# EAGLE library part GR8_MODULE_V0.1 (library CHIP_PRO_Dev-Kit-v0.1)
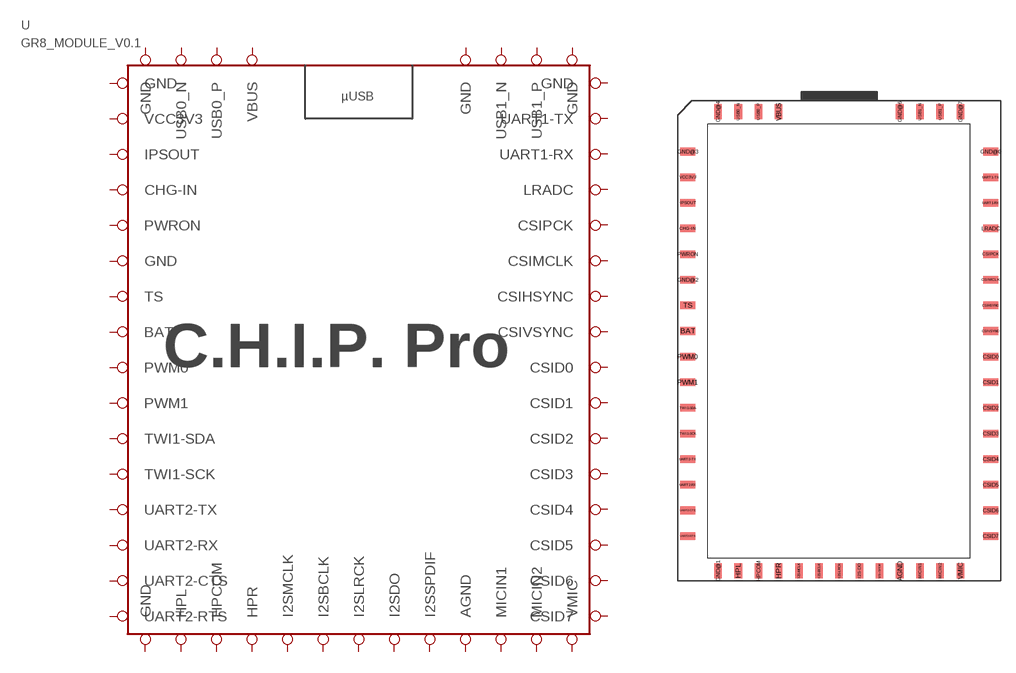
[diagram p0: symbol with the pads of GR8_MODULE_V0.2; footprint GR8_MODULE_V0.2]

Designator prefix -

## GR8_MODULE_V0.1  [GR8_MODULE_V0.2]
AGND  AGND  pwr
BAT  BAT
CHG-IN  CHG-IN  pwr
CSID0  CSID0
CSID1  CSID1
CSID2  CSID2
CSID3  CSID3
CSID4  CSID4
CSID5  CSID5
CSID6  CSID6
CSID7  CSID7
CSIHSYNC  CSIHSYNC
CSIMCLK  CSIMCLK
CSIPCK  CSIPCK
CSIVSYNC  CSIVSYNC
GND@0  GND  pwr
GND@1  GND  pwr
GND@2  GND  pwr
GND@3  GND  pwr
GND@4  GND  pwr
GND@6  GND  pwr
GND@7  GND  pwr
HPCOM  HPCOM
HPL  HPL
HPR  HPR
I2S+SPDIF  I2SSPDIF
I2S-BCLK  I2SBCLK
I2S-DO  I2SDO
I2S-LRCK  I2SLRCK
I2S-MCLK  I2SMCLK
IPSOUT  IPSOUT  pwr
LRADC  LRADC
MICIN1  MICIN1
MICIN2  MICIN2
PWM0  PWM0
PWM1  PWM1
PWRON  PWRON
TS  TS
TWI1-SCK  TWI1-SCK
TWI1-SDA  TWI1-SDA
UART1-RX  UART1-RX
UART1-TX  UART1-TX
UART2-CTS  UART2-CTS
UART2-RTS  UART2-RTS
UART2-RX  UART2-RX
UART2-TX  UART2-TX
USB0_N  USB0_N
USB0_P  USB0_P
USB1_N  USB1_N
USB1_P  USB1_P
VBUS  VBUS  pwr
VCC3V3  VCC3V3  pwr
VMIC  VMIC

## Footprint GR8_MODULE_V0.2 (pad centres in mm)
smd 0.75 x 1.5: AGND 6,-22.5; GND@1 -12,-22.5; GND@4 -12,23; GND@6 6,23; GND@7 12,23; HPCOM -8,-22.5; HPL -10,-22.5; HPR -6,-22.5; I2S+SPDIF 4,-22.5; I2S-BCLK -2,-22.5; I2S-DO 2,-22.5; I2S-LRCK 0,-22.5; I2S-MCLK -4,-22.5; MICIN1 8,-22.5; MICIN2 10,-22.5; USB0_N -10,23; USB0_P -8,23; USB1_N 8,23; USB1_P 10,23; VBUS -6,23; VMIC 12,-22.5
smd 1.5 x 0.75: BAT -15,1.27; CHG-IN -15,11.43; CSID0 15,-1.27; CSID1 15,-3.81; CSID2 15,-6.35; CSID3 15,-8.89; CSID4 15,-11.43; CSID5 15,-13.97; CSID6 15,-16.51; CSID7 15,-19.05; CSIHSYNC 15,3.81; CSIMCLK 15,6.35; CSIPCK 15,8.89; CSIVSYNC 15,1.27; GND@0 15,19.05; GND@2 -15,6.35; GND@3 -15,19.05; IPSOUT -15,13.97; LRADC 15,11.43; PWM0 -15,-1.27; PWM1 -15,-3.81; PWRON -15,8.89; TS -15,3.81; TWI1-SCK -15,-8.89; TWI1-SDA -15,-6.35; UART1-RX 15,13.97; UART1-TX 15,16.51; UART2-CTS -15,-16.51; UART2-RTS -15,-19.05; UART2-RX -15,-13.97; UART2-TX -15,-11.43; VCC3V3 -15,16.51